# Altium schematic symbol library 219-3LPSTR.SchLib: 1 symbol
Pins are listed as number, name and electrical type; pins without a type are passive.

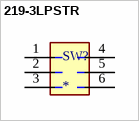
[diagram p0: symbol 219-3LPSTR]

## 219-3LPSTR
designator SW?
Switch DIP ON OFF SPST 3 Flush Slide 0.1A 20VDC Gull Wing 2000Cycles 2.54mm SMD T/R; MF: CTS CORP; MP: 219-3LPSTR; Purchase-URL: https://pricing.snapeda.com/search/part/219-3LPSTR/?ref=eda; Package: None; Value: *; Availability: In Stock; Price: None; SnapEDA_Link: https://www.snapeda.com/parts/219-3LPSTR/CTS+Corporation/view-part/?ref=snap; Check_prices: https://www.snapeda.com/parts/219-3LPSTR/CTS+Corporation/view-part/?ref=eda
footprint SW_219-3LPSTR
pins: 1, 2, 3, 4, 5, 6